# EAGLE library part TNY263-268 (library power_integrations)
TinySwitch-II integrates a 700 V power MOSFET, oscillator, high voltage switched current source, current limit and thermal shutdown circuitry onto a monolithic device. The start-up and operating power are derived directly from the voltage on the DRAIN pin, eliminating the need for a bias winding and associated circuitry. In addition, the TinySwitch-II devices incorporate auto-restart, line undervoltage sense, and frequency jittering. An innovative design minimizes audio frequency components in the simple ON/OFF control scheme to practically eliminate audible noise with standard taped/varnished transformer construction. The fully integrated auto-restart circuit safely limits output power during fault conditions such as output short circuit or open loop, reducing component count and secondary feedback circuitry cost. An optional line sense resistor externally programs a line undervoltage threshold, which eliminates power down glitches caused by the slow discharge of input storage capacitors present in applications such as standby supplies. The operating frequency of 132 kHz is jittered to signifi cantly reduce both the quasi-peak and average EMI, minimizing fi ltering cost.
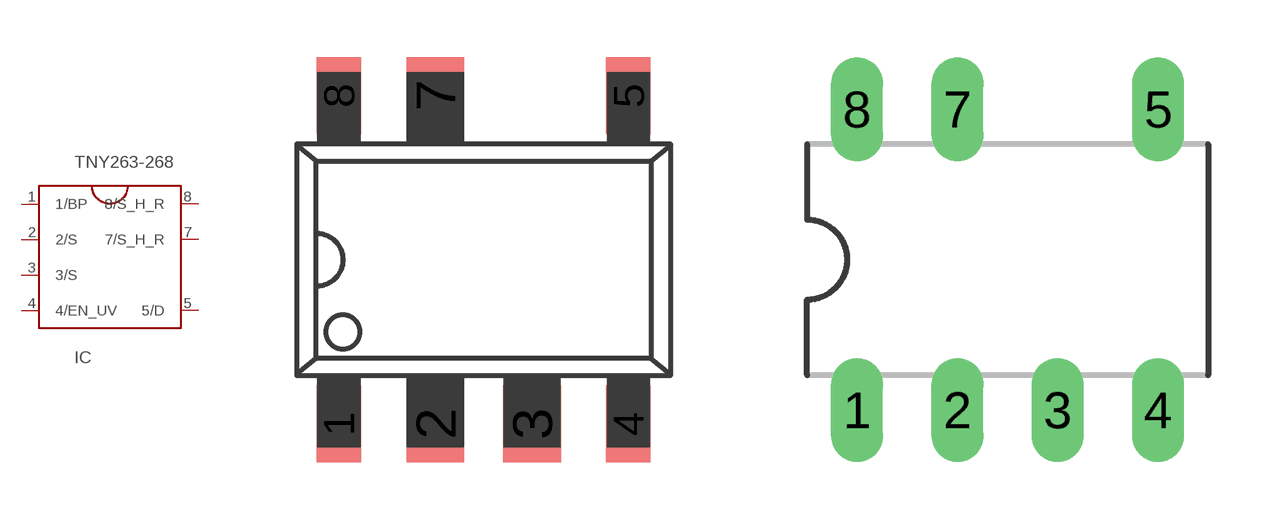
[diagram p16: symbol with the pads of DIP8B_SMD(G_PACKAGE); footprints DIP8B_SMD(G_PACKAGE), DIP-8B]

Designator prefix IC

## TNY263-268  [DIP8B_SMD(G_PACKAGE)]
1  1/BP
2  2/S
3  3/S
4  4/EN_UV
5  5/D
7  7/S_H_R
8  8/S_H_R

## TNY263-268DIP-8B  [DIP-8B]
Pads as for DIP8B_SMD(G_PACKAGE)

## Footprint DIP8B_SMD(G_PACKAGE) (pad centres in mm)
smd 1.168 x 2.032: 1 -3.81,-4.32; 4 3.81,-4.32; 5 3.81,4.32; 8 -3.81,4.32
smd 1.524 x 2.032: 2 -1.27,-4.32; 3 1.27,-4.32; 7 -1.27,4.32

## Footprint DIP-8B (pad centres in mm)
Dual In Line Package
drill 0.813 long: 1 -3.81,-3.81; 2 -1.27,-3.81; 3 1.27,-3.81; 4 3.81,-3.81; 5 3.81,3.81; 7 -1.27,3.81; 8 -3.81,3.81